# Altium schematic symbol library XTAL_HC49SSDLF-8mHz..SchLib: 1 symbol
Pins are listed as number, name and electrical type; pins without a type are passive.

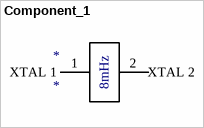
[diagram p0: symbol Component_1]

## Component_1
designator *
footprint CAPC13550X20N (Chip Capacitor, 2-Leads, Body 13.50x5.00mm, IPC Medium Density)
pins: 1 XTAL 1 , 2 XTAL 2
text: 8mHz